# EAGLE library part HC-05(BLUETOOTH_MODULE) (library CEDT_JANUARY_2015_v6)
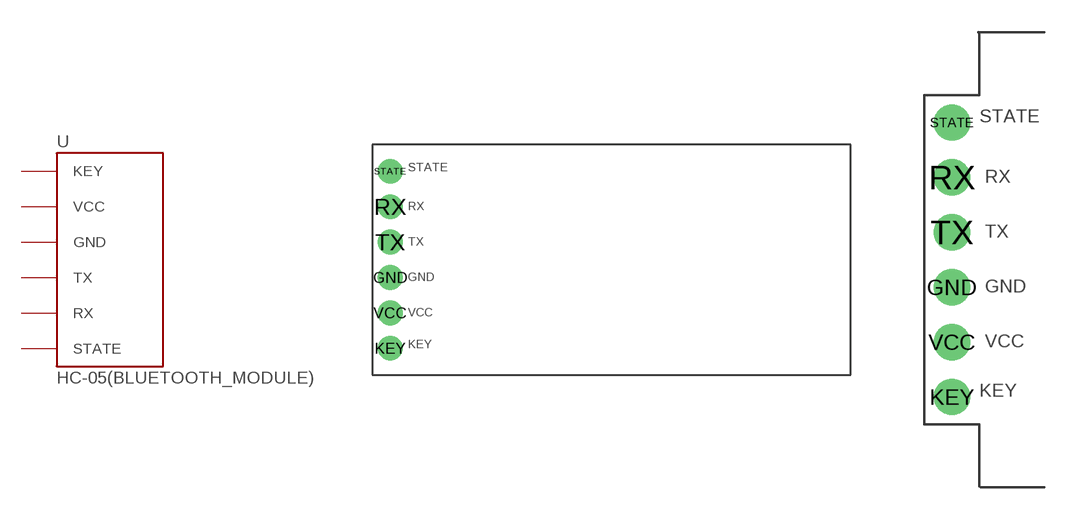
[diagram p87: symbol with the pads of HC-05; footprints HC-05, HC-05(STANDING)]

Designator prefix -

## HC-05(BLUETOOTH_MODULE)  [HC-05]
GND  GND  pwr
KEY  KEY
RX  RX
STATE  STATE
TX  TX
VCC  VCC  pwr

## HC-05(BLUETOOTH_MODULE)STANDING  [HC-05(STANDING)]
Pads as for HC-05

## Footprint HC-05 (pad centres in mm)
drill 0.9 pad 1.778: GND -16.51,-1.27; KEY -16.51,-6.35; RX -16.51,3.81; STATE -16.51,6.35; TX -16.51,1.27; VCC -16.51,-3.81

## Footprint HC-05(STANDING) (pad centres in mm)
drill 0.9 pad 1.676: GND -3.81,-1.27; KEY -3.81,-6.35; RX -3.81,3.81; STATE -3.81,6.35; TX -3.81,1.27; VCC -3.81,-3.81